# Altium schematic symbol library TEST_POINT_PAD3MM.SchLib: 1 symbol
Pins are listed as number, name and electrical type; pins without a type are passive.

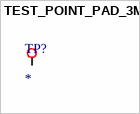
[diagram p0: symbol TEST_POINT_PAD_3MM]

## TEST_POINT_PAD_3MM
designator TP?  (no BOM)
footprint ROUND_3MM
footprint RECTANGULAR_3MM
pins: 1